# EAGLE library part AD5545 (library Radicon)
AD5545/AD5555 Dual, Current-Output, Serial-Input, 16-/14-Bit DACs
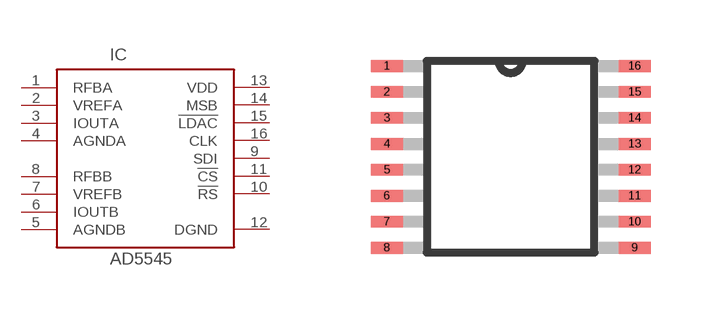
[diagram p20: symbol with the pads of TSSOP16; footprint TSSOP16]

Designator prefix IC

## AD5545  [TSSOP16]
1  RFBA  pas
2  VREFA  pas
3  IOUTA  pas
4  AGNDA  pas
5  AGNDB  pas
6  IOUTB  pas
7  VREFB  pas
8  RFBB  pas
9  SDI  pas
10  !RS  pas
11  !CS  pas
12  DGND  pas
13  VDD  pas
14  MSB  pas
15  !LDAC  pas
16  CLK  pas

## Footprint TSSOP16 (pad centres in mm)
TSSOP16 Auto generated by make-symbol-device-package-bsdl.ulp Rev. 29
smd 0.8 x 0.3: 1 -3.1,2.275; 2 -3.1,1.625; 3 -3.1,0.975; 4 -3.1,0.325; 5 -3.1,-0.325; 6 -3.1,-0.975; 7 -3.1,-1.625; 8 -3.1,-2.275; 9 3.1,-2.275; 10 3.1,-1.625; 11 3.1,-0.975; 12 3.1,-0.325; 13 3.1,0.325; 14 3.1,0.975; 15 3.1,1.625; 16 3.1,2.275